# EAGLE library part DIP-IC-SOCKET(2X4P-2.54) (library Seeed-OPL-Connector)
320070002
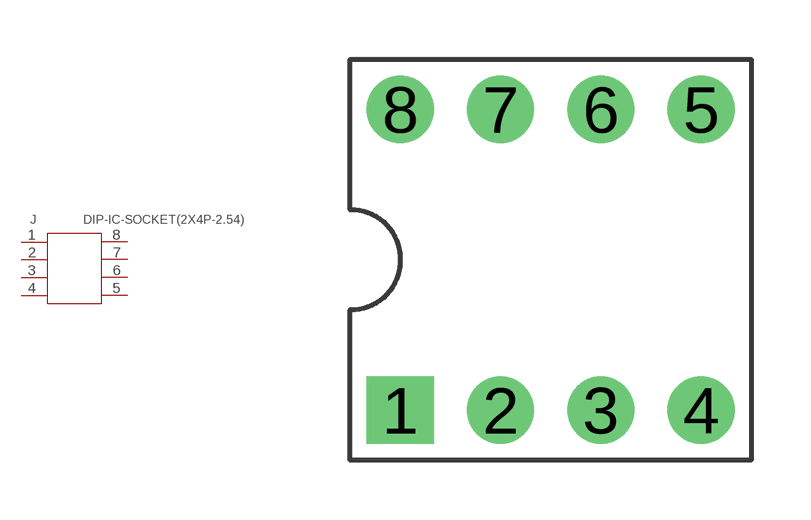
[diagram p54: symbol with the pads of SCK8-2.54-10.16X10.0MM; footprint SCK8-2.54-10.16X10.0MM]

Designator prefix J

## DIP-IC-SOCKET(2X4P-2.54)  [SCK8-2.54-10.16X10.0MM]
1  P$1
2  P$2
3  P$3
4  P$4
5  P$5
6  P$6
7  P$7
8  P$8

## Footprint SCK8-2.54-10.16X10.0MM (pad centres in mm)
drill 1 pad 1.7 square: 1 -3.81,-3.81
drill 1 pad 1.7: 2 -1.27,-3.81; 3 1.27,-3.81; 4 3.81,-3.81; 5 3.81,3.81; 6 1.27,3.81; 7 -1.27,3.81; 8 -3.81,3.81